# Altium footprint library RHDR6W76P0X254_1X6_1524X254X826P.PcbLib: 1 footprints
Each footprint in its own frame and in the unit in brackets; x right, y up, seen from the top. Pads: shape width x height; smd on the part's side, far side on the other; paste and mask are expansions set on the pad; w line width, h text height; cw(c..) or ccw(c..) is an arc to the next point about the centre after c.
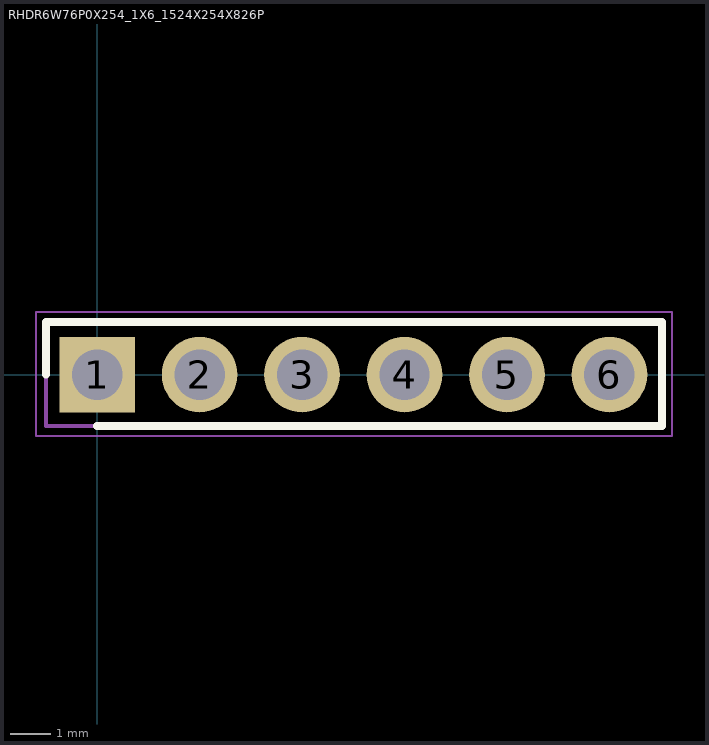
[diagram p0: the footprint, top view; thin cyan lines are the x and y axes]

## RHDR6W76P0X254_1X6_1524X254X826P [mm]
pads (6):
  rect 1.875x1.875 / inner round 1.875 / far side rect 1.875x1.875 hole 1.25: 1(0,0)
  round 1.875 hole 1.25: 2(2.54,0) 3(5.08,0) 4(7.62,0) 5(10.16,0) 6(12.7,0)
Top Overlay:
  lines w0.2: -1.27,0 -1.27,1.305 14.005,1.305 14.005,-1.27 0,-1.27
Mechanical 15:
  lines w0.1: -1.27,-1.27 -1.27,1.27 13.97,1.27 13.97,-1.27 -1.27,-1.27
Mechanical 20:
  lines w0.05: -1.52,-1.52 -1.52,1.555 14.255,1.555 14.255,-1.52 -1.52,-1.52
3D body "929850-01-06-RB.stp": height 5.8, standoff -4.65, extent -10,-3.376 10,3.376